# Altium footprint library Button_SMD.PcbLib: 1 footprints
Each footprint in its own frame and in the unit in brackets; x right, y up, seen from the top. Pads: shape width x height; smd on the part's side, far side on the other; paste and mask are expansions set on the pad; w line width, h text height; cw(c..) or ccw(c..) is an arc to the next point about the centre after c.
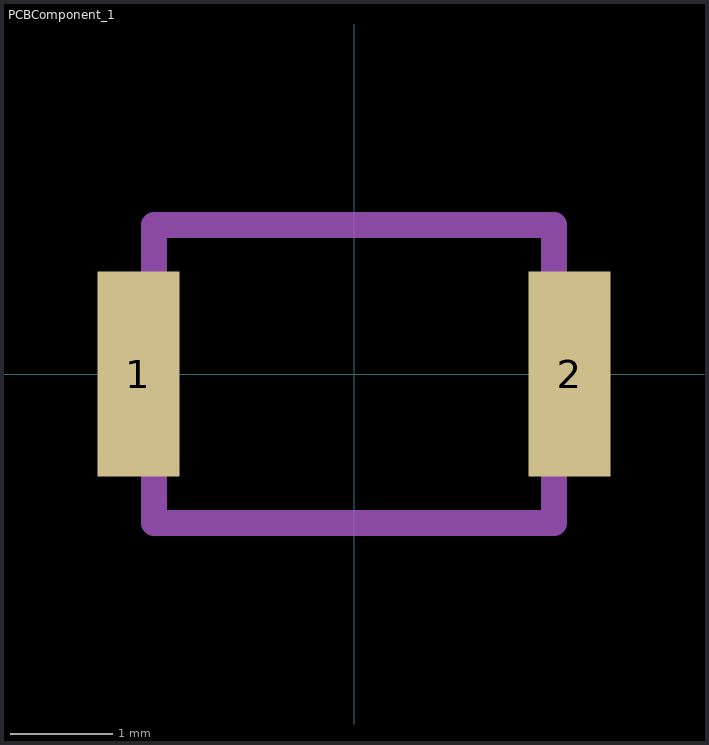
[diagram p0: the footprint, top view; thin cyan lines are the x and y axes]

## PCBComponent_1 [mm]
pads (2):
  rect 0.8x2 smd: 1(-2.1,0) 2(2.1,0)
Mechanical 13:
  lines w0.254: -1.95,-1.45 1.95,-1.45 ; -1.95,-1.45 -1.95,1.45 ; -1.95,-1.45 1.95,-1.45 ; -1.95,1.45 1.95,1.45 ; -1.95,1.45 1.95,1.45 ; 1.95,-1.45 1.95,1.45
3D body "skrkaee010.stp": height 2, standoff 0, extent -2.4,-1.45 2.4,1.45